# Altium footprint library BTH2032.PcbLib: 1 footprints
Each footprint in its own frame and in the unit in brackets; x right, y up, seen from the top. Pads: shape width x height; smd on the part's side, far side on the other; paste and mask are expansions set on the pad; w line width, h text height; cw(c..) or ccw(c..) is an arc to the next point about the centre after c.
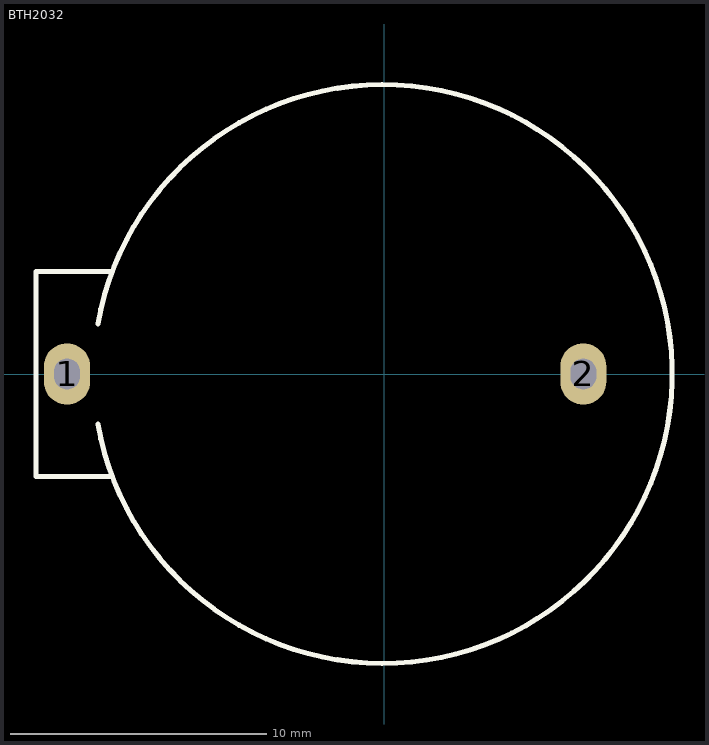
[diagram p0: the footprint, top view; thin cyan lines are the x and y axes]

## BTH2032 [mm] "CR2032 BATTERY HOLDER"
height 3.2
pads (2):
  oval 1.8x2.4 hole 1 slot 1.2 at 90 deg: 1(-12.38,0) 2(7.78,0)
Top Overlay:
  lines w0.2: -11.178,-1.962 ccw(c-0.05,0) -11.178,1.962 ; -10.6,-4 -13.6,-4 -13.6,4 -10.6,4
3D body "CR2032_HOR_HOLD.step": height 8.5, standoff -4, extent -13.45,-11 11.05,11